# Altium footprint library KnitterSideSwitch.PcbLib: 2 footprints
Each footprint in its own frame and in the unit in brackets; x right, y up, seen from the top. Pads: shape width x height; smd on the part's side, far side on the other; paste and mask are expansions set on the pad; w line width, h text height; cw(c..) or ccw(c..) is an arc to the next point about the centre after c.
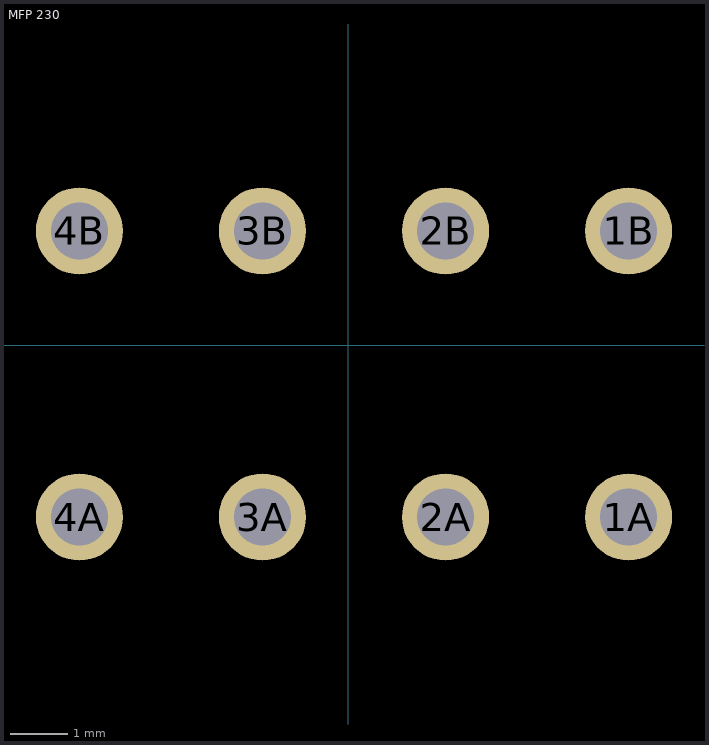
[diagram p0: the footprints below, top view; thin cyan lines are the x and y axes]

## MFP 230 [mm] "MFP 230 Slide Switch"
pads (8):
  round 1.524 hole 1: 1A(4.9,-3) 1B(4.9,2) 2A(1.7,-3) 2B(1.7,2) 3A(-1.5,-3) 3B(-1.5,2) 4A(-4.7,-3) 4B(-4.7,2)
3D body "MFP 230.stp": height 11.01, standoff -3.49, extent -8.275,-5.575 8.525,4.625

## PCBComponent_1 [mm]